# EAGLE library part MAB5SH (library epiano)
Female CONNECTOR 5 pins 90 deg. with shield, horizontal (DIN 41524)
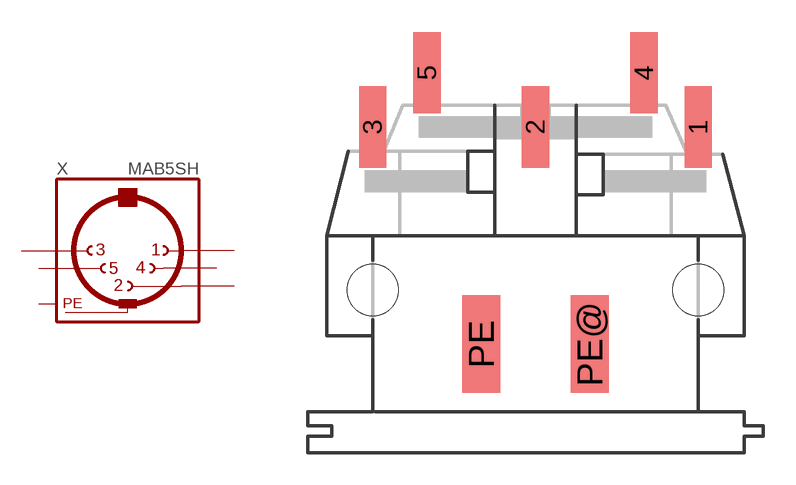
[diagram p2: symbol with the pads of MAB5SH; footprint MAB5SH]

Designator prefix X

## MAB5SH (OC_FARNELL: 809883; OC_NEWARK: unknown)  [MAB5SH]
1  1  pas
2  2  pas
3  3  pas
4  4  pas
5  5  pas
PE  PE  pwr
PE@  PE  pwr

## Footprint MAB5SH (pad centres in mm)
Female CONNECTOR 5 pins 90 deg. with shield, horizontal (DIN 41524)
smd 1.27 x 3.81: 1 7.62,7.62; 2 0,7.62; 3 -7.62,7.62; 4 5.08,10.16; 5 -5.08,10.16
smd 1.778 x 4.572: PE -2.54,-2.54; PE@ 2.54,-2.54
hole 2.4 at 7.62,0
hole 2.4 at -7.62,0